# EAGLE library part TBP-154+ (library NewSDR)
Mini-Circuits SMD Bandpass Filter
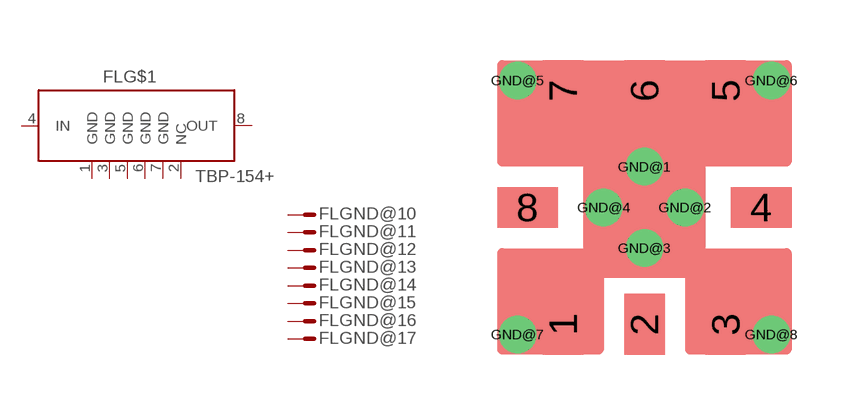
[diagram p209: symbol with the pads of PL-310; footprint PL-310]

Designator prefix FL; gates G$1=TBP-* GND@10=M GND@11=M GND@12=M GND@13=M GND@14=M GND@15=M GND@16=M GND@17=M

## TBP-154+  [PL-310]
1  G$1:GND  pwr
2  G$1:NC  nc
3  G$1:GND  pwr
4  G$1:IN  pas
5  G$1:GND  pwr
6  G$1:GND  pwr
7  G$1:GND  pwr
8  G$1:OUT  pas
GND@1  GND@10:M  pas
GND@2  GND@11:M  pas
GND@3  GND@12:M  pas
GND@4  GND@13:M  pas
GND@5  GND@14:M  pas
GND@6  GND@15:M  pas
GND@7  GND@16:M  pas
GND@8  GND@17:M  pas

## Footprint PL-310 (pad centres in mm)
Mini-Circuits SMD Filter
smd 1.016 x 1.524: 1 -2.032,-2.921; 2 0,-2.921; 3 2.032,-2.921; 5 2.032,2.921; 6 0,2.921; 7 -2.032,2.921
smd 1.524 x 1.016: 4 2.921,0; 8 -2.921,0
drill 0.432: GND@1 0,1.016; GND@2 1.016,0; GND@3 0,-1.016; GND@4 -1.016,0; GND@5 -3.175,3.175; GND@6 3.175,3.175; GND@7 -3.175,-3.175; GND@8 3.175,-3.175